# EAGLE library part TGC*1050M (library vishay-7seg)
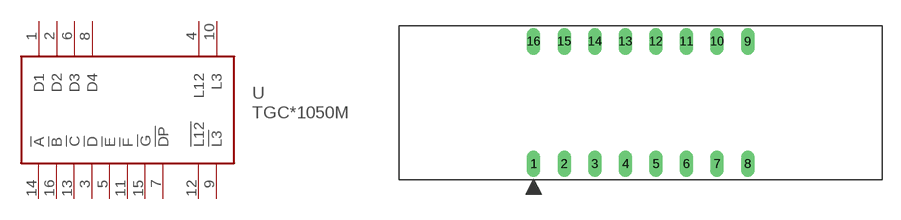
[diagram p0: symbol with the pads of DIP16-WIDE; footprint DIP16-WIDE]

Designator prefix -

## TGC1050M  [DIP16-WIDE]
1  D1  pas
2  D2  pas
3  !D  pas
4  L12  pas
5  !E  pas
6  D3  pas
7  !DP  pas
8  D4  pas
9  !L3  pas
10  L3  pas
11  !F  pas
12  !L12  pas
13  !C  pas
14  !A  pas
15  !G  pas
16  !B  pas

## Footprint DIP16-WIDE (pad centres in mm)
drill 0.6 long: 1 -8.89,-5.08; 2 -6.35,-5.08; 3 -3.81,-5.08; 4 -1.27,-5.08; 5 1.27,-5.08; 6 3.81,-5.08; 7 6.35,-5.08; 8 8.89,-5.08; 9 8.89,5.08; 10 6.35,5.08; 11 3.81,5.08; 12 1.27,5.08; 13 -1.27,5.08; 14 -3.81,5.08; 15 -6.35,5.08; 16 -8.89,5.08